# Altium footprint library SamacSys.PcbLib: 19 footprints (part 1 of 2)
Each footprint in its own frame and in the unit in brackets; x right, y up, seen from the top. Pads: shape width x height; smd on the part's side, far side on the other; paste and mask are expansions set on the pad; w line width, h text height; cw(c..) or ccw(c..) is an arc to the next point about the centre after c.
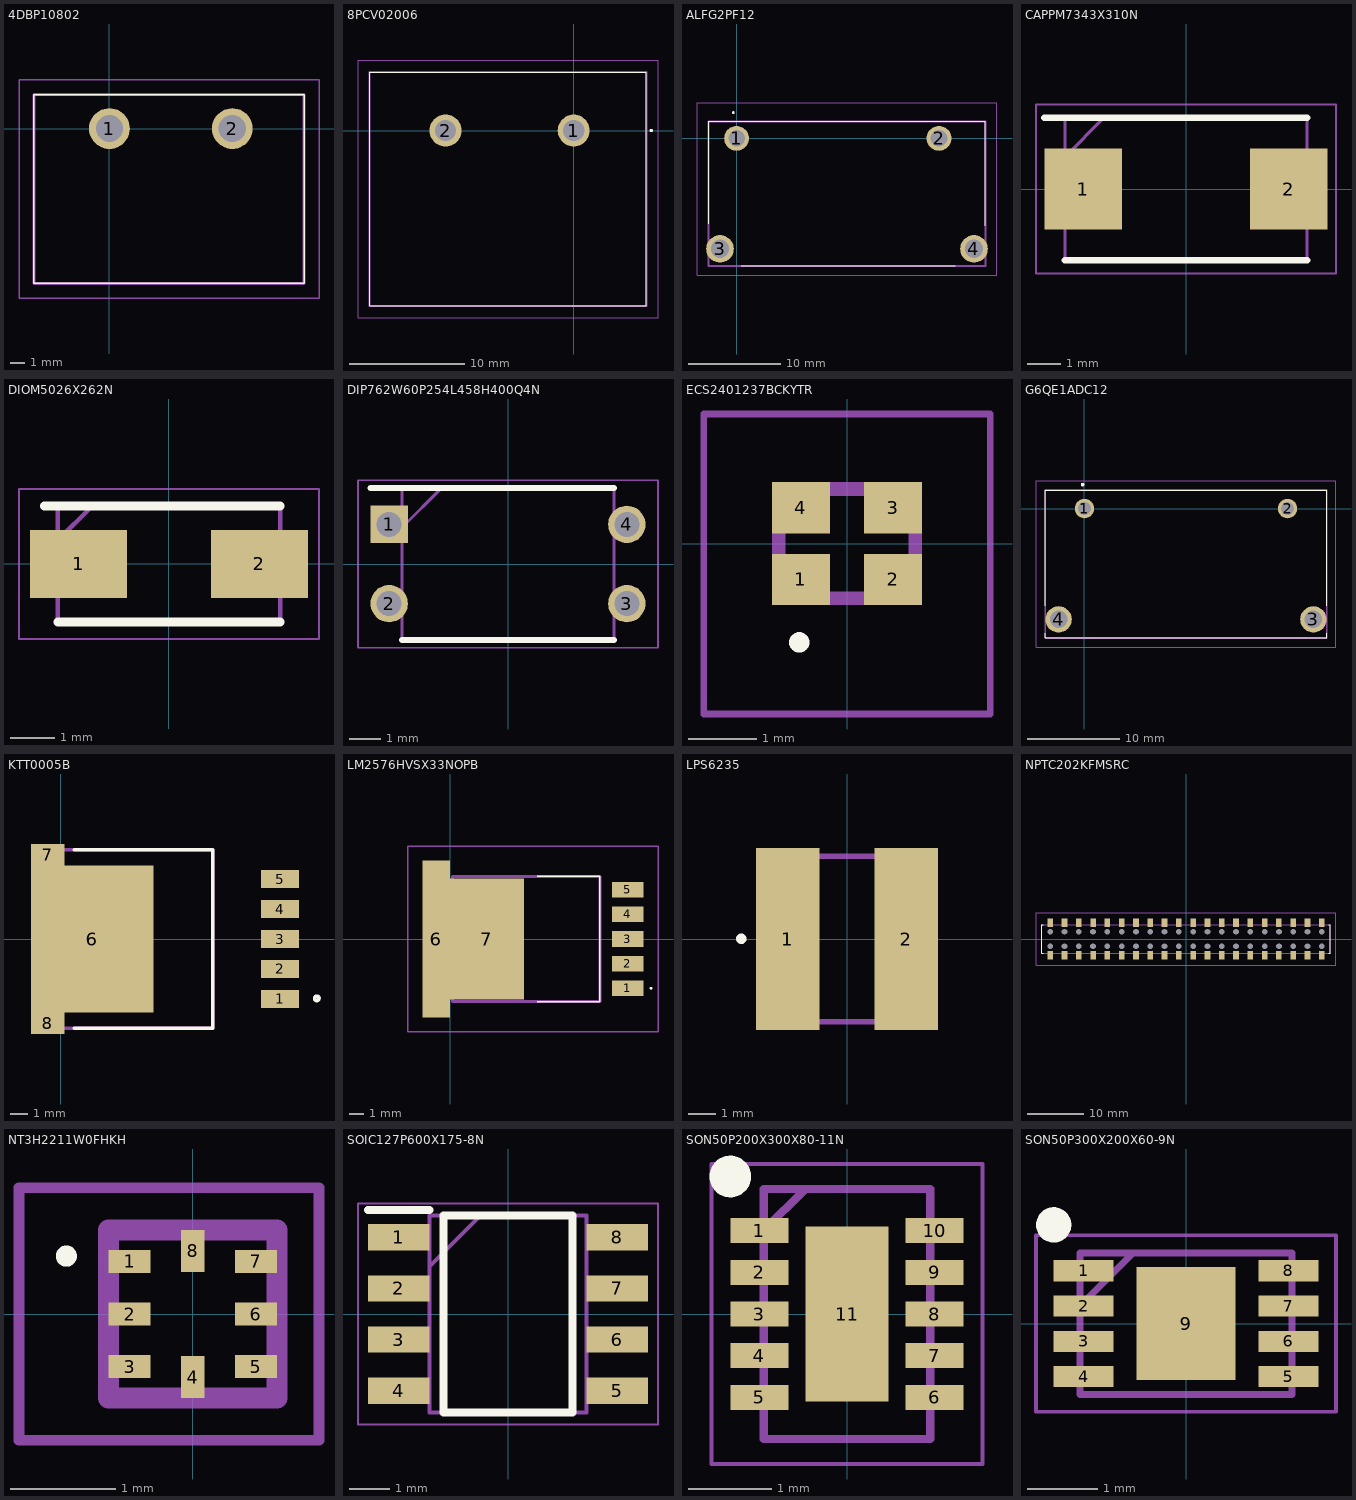
[diagram p0: the footprints below, top view; thin cyan lines are the x and y axes]

## 4DBP10802 [mm]
pads (2):
  round 2.744 hole 1.829: 1(0,0) 2(8.255,0)
Top Overlay:
  lines w0.1: -5.08,-10.414 13.081,-10.414 13.081,2.286 -5.08,2.286 -5.08,-10.414
Mechanical 13:
  lines w0.2: -5.08,-10.414 13.081,-10.414 13.081,2.286 -5.08,2.286 -5.08,-10.414
Mechanical 15:
  lines w0.1: -6.08,-11.414 14.081,-11.414 14.081,3.286 -6.08,3.286 -6.08,-11.414
3D body "4DB-P108-02.stp": height 13.56, standoff -5, extent -5.08,-10.414 13.081,2.286

## 8PCV02006 [mil]
pads (2):
  round 109.49 hole 73: 1(0,0) 2(-437.99,0)
Top Overlay:
  lines w3.94: -697.99,-600 249.02,-600 249.02,200 -697.99,200 -697.99,-600
  lines w7.87: 263.78,0 ccw(c265.75,0) 267.72,0 ; 263.78,0 cw(c265.75,0) 267.72,0 ; 263.78,0 ccw(c265.75,0) 267.72,0
Mechanical 13:
  lines w7.87: -697.99,-600 249.02,-600 249.02,200 -697.99,200 -697.99,-600
Mechanical 15:
  lines w3.94: -737.36,-639.37 288.39,-639.37 288.39,239.37 -737.36,239.37 -737.36,-639.37
3D body "8PCV-02-006.stp": height 770, standoff -185, extent -694.47,-595.67 253.53,204.33

## ALFG2PF12 [mm]
pads (4):
  round 2.7 hole 1.8: 1(0,0) 2(22,0)
  round 3 hole 2: 3(-1.8,-12) 4(25.8,-12)
Top Overlay:
  lines w0.1: -3.05,1.85 27.05,1.85 ; -3.05,1.85 27.05,1.85 ; -3.05,1.85 -3.05,-9.25 -3.05,1.85 ; 27.05,1.85 27.05,-9.5 27.05,1.85 ; 0.5,-13.85 23.75,-13.85 0.5,-13.85
  lines w0.2: -0.4,2.8 cw(c-0.35,2.8) -0.3,2.8 ; -0.4,2.8 ccw(c-0.35,2.8) -0.3,2.8 ; -0.4,2.8 cw(c-0.35,2.8) -0.3,2.8
Mechanical 13:
  lines w0.2: -3.05,-13.85 27.05,-13.85 27.05,1.85 -3.05,1.85 -3.05,-13.85
Mechanical 15:
  lines w0.1: -4.3,-14.85 28.3,-14.85 28.3,3.85 -4.3,3.85 -4.3,-14.85
3D body "ALF-G2PF12.stp": height 23.4, standoff -5, extent -3.05,-13.85 27.05,1.85

## CAPPM7343X310N [mm]
pads (2):
  rect 2.35x2.45 smd: 1(-3.1,0) 2(3.1,0)
Top Overlay:
  lines w0.2: -4.275,2.15 3.65,2.15 ; -3.65,-2.15 3.65,-2.15
Mechanical 13:
  lines w0.1: -3.65,0.975 -2.475,2.15 ; -3.65,-2.15 -3.65,2.15 3.65,2.15 3.65,-2.15 -3.65,-2.15
Mechanical 15:
  lines w0.05: -4.525,-2.55 -4.525,2.55 4.525,2.55 4.525,-2.55 -4.525,-2.55
3D body "T495X108K006ATE100.stp": height 3.1, standoff 0, extent -3.804,-2.305 3.796,2.295

## DIOM5026X262N [mm]
pads (2):
  rect 2.2x1.55 smd: 1(-2.05,0) 2(2.05,0)
Top Overlay:
  lines w0.2: -2.825,1.312 2.52,1.312 ; -2.52,-1.312 2.52,-1.312
Mechanical 13:
  lines w0.1: -2.52,0.538 -1.745,1.312 ; -2.52,-1.312 -2.52,1.312 2.52,1.312 2.52,-1.312 -2.52,-1.312
Mechanical 15:
  lines w0.05: -3.4,-1.7 -3.4,1.7 3.4,1.7 3.4,-1.7 -3.4,-1.7
3D body "SS310A.stp": height 2.62, standoff 0, extent -2.52,-1.312 2.52,1.312

## DIP762W60P254L458H400Q4N [mm]
pads (4):
  rect 1.2x1.2 hole 0.8: 1(-3.81,1.27)
  round 1.2 hole 0.8: 2(-3.81,-1.27) 3(3.81,-1.27) 4(3.81,1.27)
Top Overlay:
  lines w0.2: -4.41,2.44 3.4,2.44 ; -3.4,-2.44 3.4,-2.44
Mechanical 13:
  lines w0.1: -3.4,1.17 -2.13,2.44 ; -3.4,-2.44 -3.4,2.44 3.4,2.44 3.4,-2.44 -3.4,-2.44
Mechanical 15:
  lines w0.05: -4.81,-2.69 -4.81,2.69 4.81,2.69 4.81,-2.69 -4.81,-2.69
3D body "PC817X2NSZ0F.stp": height 4, standoff -3.5, extent -3.96,-2.29 3.96,2.29

## ECS2401237BCKYTR [mm]
pads (4):
  rect 0.85x0.75 smd: 1(-0.675,-0.525) 2(0.675,-0.525) 3(0.675,0.525) 4(-0.675,0.525)
Top Overlay:
  lines w0.2: -0.7,-1.5 cw(c-0.7,-1.45) -0.7,-1.4 ; -0.7,-1.5 ccw(c-0.7,-1.45) -0.7,-1.4 ; -0.7,-1.5 cw(c-0.7,-1.45) -0.7,-1.4
Mechanical 13:
  lines w0.2: -1,-0.8 -1,0.8 1,0.8 1,-0.8 -1,-0.8
Mechanical 15:
  lines w0.1: -2.1,-2.5 -2.1,1.9 2.1,1.9 2.1,-2.5 -2.1,-2.5
3D body "ECS-240-12-37B-CKY-TR.stp": height 0.6, standoff 0, extent -1.025,-0.825 1.025,0.825

## G6QE1ADC12 [mm]
pads (4):
  round 2.1 hole 1.4: 1(0,0) 2(22,0)
  round 2.85 hole 1.9: 3(24.8,-12) 4(-2.8,-12)
Top Overlay:
  lines w0.1: -4.25,-13.5 -4.25,-14 26.25,-14 26.25,-13.5 ; -4.25,-10.5 -4.25,2 26.25,2 26.25,-10.5
  lines w0.2: -0.2,2.5 ccw(c-0.2,2.6) -0.2,2.7 ccw(c-0.2,2.6) -0.2,2.5
Mechanical 13:
  lines w0.2: -4.25,-14 -4.25,2 26.25,2 26.25,-14 -4.25,-14
Mechanical 15:
  lines w0.1: -5.25,-15 -5.25,3 27.25,3 27.25,-15 -5.25,-15
3D body "G6QE-1A_DC12.stp": height 20.6, standoff -5, extent -4.25,-14 26.25,2

## KTT0005B [mm]
pads (8):
  rect 2.16x1.02 smd: 1(12.461,-3.4) 2(12.461,-1.7) 3(12.461,0) 4(12.461,1.7) 5(12.461,3.4)
  rect 6.99x8.33 smd: 6(1.786,0)
  rect 1.91x1.235 smd: 7(-0.754,4.782) 8(-0.754,-4.782)
Top Overlay:
  circle w0.2: c14.551,-3.375 r0.126
  lines w0.2: 0.756,-5.08 8.64,-5.08 8.64,5.08 0.756,5.08
Mechanical 13:
  lines w0.2: 0,-5.08 0,5.08 8.64,5.08 8.64,-5.08 0,-5.08
3D body "LM2576HVS-5.0.stp": height 4.72, standoff 0, extent -1.11,-5.08 13.24,5.08

## LM2576HVSX33NOPB [mm]
pads (7):
  rect 2.16x1.07 smd: 1(12.26,-3.4) 2(12.26,-1.7) 3(12.26,0) 4(12.26,1.7) 5(12.26,3.4)
  rect 1.91x10.8 smd: 6(-0.955,0)
  rect 5.08x8.33 smd: 7(2.54,0)
Top Overlay:
  lines w0.1: 6,-4.32 10.33,-4.32 10.33,4.32 6,4.32 ; 13.8,-3.4 cw(c13.85,-3.4) 13.9,-3.4 cw(c13.85,-3.4) 13.8,-3.4
Mechanical 13:
  lines w0.2: 0.17,-4.32 0.17,4.32 10.33,4.32 10.33,-4.32 0.17,-4.32
Mechanical 15:
  lines w0.1: -2.91,-6.4 -2.91,6.4 14.34,6.4 14.34,-6.4 -2.91,-6.4

## LPS6235 [mm]
pads (2):
  rect 2.3x6.6 smd: 1(-2.15,0) 2(2.15,0)
Top Overlay:
  circle w0.2: c-3.841,0.006 r0.088
Mechanical 13:
  lines w0.2: -3,-3 3,-3 3,3 -3,3 -3,-3
3D body "LPS6235-473MRC.stp": height 3.55, standoff 0, extent -3,-3 3,3

## NPTC202KFMSRC [mm]
pads (80):
  rect 1x1.56 smd: 1(-24.13,-2.905) 2(-24.13,2.905) 3(-21.59,-2.905) 4(-21.59,2.905) 5(-19.05,-2.905) 6(-19.05,2.905) 7(-16.51,-2.905) 8(-16.51,2.905) 9(-13.97,-2.905) 10(-13.97,2.905) 11(-11.43,-2.905) 12(-11.43,2.905) 13(-8.89,-2.905) 14(-8.89,2.905) 15(-6.35,-2.905) 16(-6.35,2.905) 17(-3.81,-2.905) 18(-3.81,2.905) 19(-1.27,-2.905) 20(-1.27,2.905) 21(1.27,-2.905) 22(1.27,2.905) 23(3.81,-2.905) 24(3.81,2.905) 25(6.35,-2.905) 26(6.35,2.905) 27(8.89,-2.905) 28(8.89,2.905) 29(11.43,-2.905) 30(11.43,2.905) 31(13.97,-2.905) 32(13.97,2.905) 33(16.51,-2.905) 34(16.51,2.905) 35(19.05,-2.905) 36(19.05,2.905) 37(21.59,-2.905) 38(21.59,2.905) 39(24.13,-2.905) 40(24.13,2.905)
  round 0.51 hole 1.02 unplated: 41(-24.13,-1.27) 42(-24.13,1.27) 43(-21.59,-1.27) 44(-21.59,1.27) 45(-19.05,-1.27) 46(-19.05,1.27) 47(-16.51,-1.27) 48(-16.51,1.27) 49(-13.97,-1.27) 50(-13.97,1.27) 51(-11.43,-1.27) 52(-11.43,1.27) 53(-8.89,-1.27) 54(-8.89,1.27) 55(-6.35,-1.27) 56(-6.35,1.27) 57(-3.81,-1.27) 58(-3.81,1.27) 59(-1.27,-1.27) 60(-1.27,1.27) 61(1.27,-1.27) 62(1.27,1.27) 63(3.81,-1.27) 64(3.81,1.27) 65(6.35,-1.27) 66(6.35,1.27) 67(8.89,-1.27) 68(8.89,1.27) 69(11.43,-1.27) 70(11.43,1.27) 71(13.97,-1.27) 72(13.97,1.27) 73(16.51,-1.27) 74(16.51,1.27) 75(19.05,-1.27) 76(19.05,1.27) 77(21.59,-1.27) 78(21.59,1.27) 79(24.13,-1.27) 80(24.13,1.27)
Top Overlay:
  lines w0.1: -25.4,-2.5 -25.65,-2.5 -25.65,2.5 -25.4,2.5 ; 25.4,-2.5 25.65,-2.5 25.65,2.5 25.4,2.5
Mechanical 13:
  lines w0.2: -25.65,-2.5 -25.65,2.5 25.65,2.5 25.65,-2.5 -25.65,-2.5
Mechanical 15:
  lines w0.1: -26.65,-4.685 -26.65,4.685 26.65,4.685 26.65,-4.685 -26.65,-4.685
3D body "NPTC202KFMS-RC.stp": height 7.1, standoff -1.7, extent -25.65,-3.585 25.65,3.585

## NT3H2211W0FHKH [mm]
pads (8):
  rect 0.4x0.22 smd: 1(-0.6,0.5) 2(-0.6,0) 3(-0.6,-0.5) 5(0.6,-0.5) 6(0.6,0) 7(0.6,0.5)
  rect 0.22x0.4 smd: 4(0,-0.6) 8(0,0.6)
Top Overlay:
  lines w0.1: -1.2,0.5 ccw(c-1.2,0.55) -1.2,0.6 ccw(c-1.2,0.55) -1.2,0.5
Mechanical 13:
  lines w0.2: -0.8,-0.8 0.8,-0.8 0.8,0.8 -0.8,0.8 -0.8,-0.8
Mechanical 15:
  lines w0.1: -1.65,-1.2 1.2,-1.2 1.2,1.2 -1.65,1.2 -1.65,-1.2

## SOIC127P600X175-8N [mm]
pads (8):
  rect 1.525x0.65 smd: 1(-2.712,1.905) 2(-2.712,0.635) 3(-2.712,-0.635) 4(-2.712,-1.905) 5(2.712,-1.905) 6(2.712,-0.635) 7(2.712,0.635) 8(2.712,1.905)
Top Overlay:
  lines w0.2: -3.475,2.58 -1.95,2.58 ; -1.6,-2.45 1.6,-2.45 1.6,2.45 -1.6,2.45 -1.6,-2.45
Mechanical 13:
  lines w0.1: -1.95,1.18 -0.68,2.45 ; -1.95,-2.45 1.95,-2.45 1.95,2.45 -1.95,2.45 -1.95,-2.45
Mechanical 15:
  lines w0.05: -3.725,-2.75 3.725,-2.75 3.725,2.75 -3.725,2.75 -3.725,-2.75
3D body "NE555DR.stp": height 1.75, standoff 0, extent -3,-2.45 3,2.45

## SON50P200X300X80-11N [mm]
pads (11):
  rect 0.7x0.3 smd: 1(-1.05,1) 2(-1.05,0.5) 3(-1.05,0) 4(-1.05,-0.5) 5(-1.05,-1) 6(1.05,-1) 7(1.05,-0.5) 8(1.05,0) 9(1.05,0.5) 10(1.05,1)
  rect 1x2.1 smd: 11(0,0)
Top Overlay:
  circle w0.25: c-1.4,1.65 r0.125
Mechanical 13:
  lines w0.1: -1,1 -0.5,1.5 ; -1,-1.5 1,-1.5 1,1.5 -1,1.5 -1,-1.5
Mechanical 15:
  lines w0.05: -1.625,-1.8 1.625,-1.8 1.625,1.8 -1.625,1.8 -1.625,-1.8
3D body "MAX17501FATB+.stp": height 0.8, standoff 0, extent -1.05,-1.5 1.05,1.5

## SON50P300X200X60-9N [mm]
pads (9):
  rect 0.85x0.3 smd: 1(-1.45,0.75) 2(-1.45,0.25) 3(-1.45,-0.25) 4(-1.45,-0.75) 5(1.45,-0.75) 6(1.45,-0.25) 7(1.45,0.25) 8(1.45,0.75)
  rect 1.4x1.6 smd: 9(0,0)
Top Overlay:
  circle w0.25: c-1.875,1.4 r0.125
Mechanical 13:
  lines w0.1: -1.5,0.25 -0.75,1 ; -1.5,-1 -1.5,1 1.5,1 1.5,-1 -1.5,-1
Mechanical 15:
  lines w0.05: -2.125,-1.25 -2.125,1.25 2.125,1.25 2.125,-1.25 -2.125,-1.25
3D body "AT24C02C-MAHM-E.stp": height 0.6, standoff 0, extent -1.55,-1 1.55,1